# EAGLE library part LM5106 (library texas-instruments)
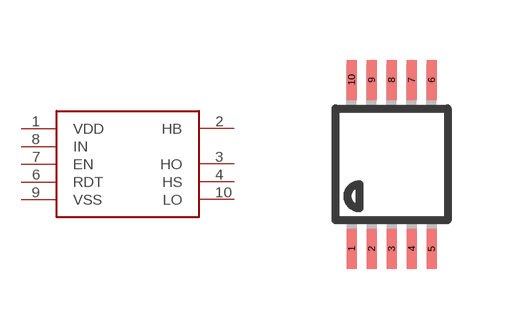
[diagram p8: symbol with the pads of MSOP10; footprint MSOP10]

Designator prefix -

## LM5106MM  [MSOP10]
1  VDD
2  HB
3  HO
4  HS
6  RDT
7  EN
8  IN
9  VSS
10  LO

## Footprint MSOP10 (pad centres in mm)
10-Lead Mini Small Outline Package [MSOP] (RM-10) Source: http://www.analog.com/UploadedFiles/Data_Sheets/35641221898805SSM2167_b.pdf COMPLIANT TO JEDEC STANDARDS MO-187BA
smd 0.25 x 1: 1 -1,-2.113; 2 -0.5,-2.113; 3 0,-2.113; 4 0.5,-2.113; 5 1,-2.113; 6 1,2.113; 7 0.5,2.113; 8 0,2.113; 9 -0.5,2.113; 10 -1,2.113